# Altium schematic symbol library dsau-motherboard.SchLib: 16 symbols
Pins are listed as number, name and electrical type; pins without a type are passive.

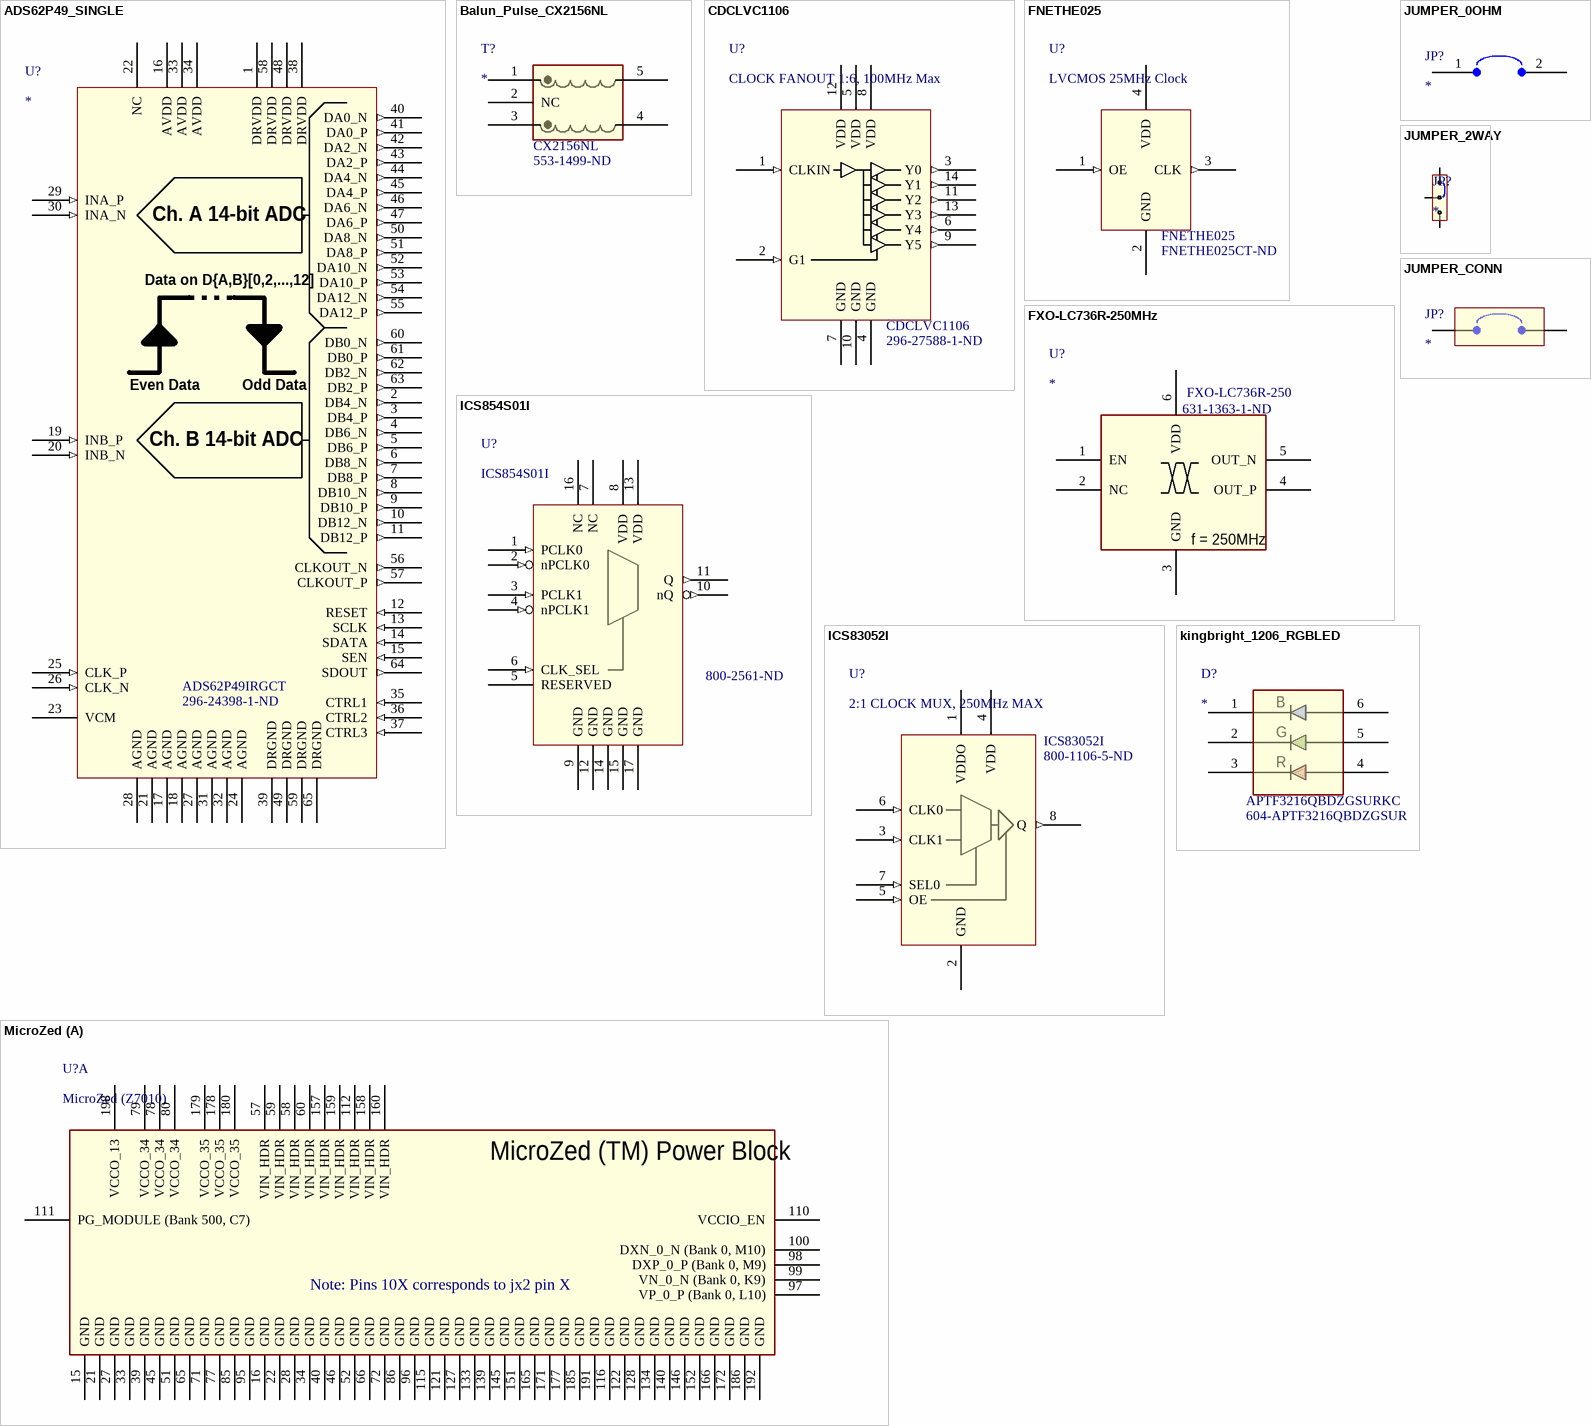
[diagram p0: symbols ADS62P49_SINGLE to MicroZed]

## ADS62P49_SINGLE
designator U?  Manufacturer Part Number: ADS62P49IRGCT  Supplier Part Number 1: 296-24398-1-ND
IC ADC DUAL 14BIT 250MSPS 64VQFN; Manufacturer: Texas Instruments; Supplier 1: Digi-key
footprint VQFN-64 (QFN, 64-Leads, Body 9.1x9.1mm (max), Pitch 0.50mm, IPC Medium Density)
pins: 1 DRVDD (power), 2 DB4_N (out), 3 DB4_P (out), 4 DB6_N (out), 5 DB6_P (out), 6 DB8_N (out), 7 DB8_P (out), 8 DB10_N (out), 9 DB10_P (out), 10 DB12_N (out), 11 DB12_P (out), 12 RESET (in), 13 SCLK (in), 14 SDATA (in), 15 SEN (in), 16 AVDD (power), 17 AGND (power), 18 AGND (power), 19 INB_P (in), 20 INB_N (in), 21 AGND (power), 22 NC, 23 VCM, 24 AGND (power), 25 CLK_P (in), 26 CLK_N (in), 27 AGND (power), 28 AGND (power), 29 INA_P (in), 30 INA_N (in), 31 AGND (power), 32 AGND (power), 33 AVDD (power), 34 AVDD (power), 35 CTRL1 (in), 36 CTRL2 (in), 37 CTRL3 (in), 38 DRVDD (power), 39 DRGND (power), 40 DA0_N (out), 41 DA0_P (out), 42 DA2_N (out), 43 DA2_P (out), 44 DA4_N (out), 45 DA4_P (out), 46 DA6_N (out), 47 DA6_P (out), 48 DRVDD (power), 49 DRGND (power), 50 DA8_N (out), 51 DA8_P (out), 52 DA10_N (out), 53 DA10_P (out), 54 DA12_N (out), 55 DA12_P (out), 56 CLKOUT_N (out), 57 CLKOUT_P (out), 58 DRVDD (power), 59 DRGND (power), 60 DB0_N (out), 61 DB0_P (out), 62 DB2_N (out), 63 DB2_P (out), 64 SDOUT (out), 65 DRGND (power)
text: Ch. A 14-bit ADC; Data on D{A,B}[0,2,...,12]; Even Data; Odd Data; Ch. B 14-bit ADC

## Balun_Pulse_CX2156NL
designator T?  Supplier Part Number 1: 553-1499-ND  Manufacturer Part Number: CX2156NL
TRANSFORMR BALUN 2.3-2700MHZ SMD; Manufacturer: Pulse Electronics Corporation; Supplier 1: Digi-Key
footprint CX2156NL_SMD5 (SOT23, 5-Leads, Body 4.5x5.4mm (max), Pitch 1.50mm, IPC Low Density)
pins: 1, 2 NC, 3, 4, 5

## CDCLVC1106
designator U?, comment CLOCK FANOUT 1:6, 100MHz Max  Manufacturer Part Number: CDCLVC1106  Supplier Part Number 1: 296-27588-1-ND
Clock Fanout 1:6, 100MHz low-skew; Manufacturer: Texas Instruments; Supplier 1: Digi-Key
footprint TSOP65P640-14AM (Footprint not found)
pins: 1 CLKIN (in), 2 G1 (in), 3 Y0 (out), 4 GND (power), 5 VDD (power), 6 Y4 (out), 7 GND (power), 8 VDD (power), 9 Y5 (out), 10 GND (power), 11 Y2 (out), 12 VDD (power), 13 Y3 (out), 14 Y1 (out)

## FNETHE025
designator U?, comment LVCMOS 25MHz Clock  Manufacturer Part Number: FNETHE025  Supplier Part Number 1: FNETHE025CT-ND
Manufacturer: Pericom; Supplier 1: Digi-Key
pins: 1 OE (in), 2 GND (power), 3 CLK (out), 4 VDD (power)

## FXO-LC736R-250MHz
designator U?  Supplier Part Number 1: 631-1363-1-ND  Manufacturer Part Number: FXO-LC736R-250
OSC 250 MHZ 3.3V LVDS SMD; Manufacturer: Fox Electronics; Supplier 1: Digi-Key
footprint FXO-LC736R-SMD_6 (QFN, 6-Leads, Body 7.5x5.2mm (max), Pitch 3.00mm, Pitch1 2.54mm, IPC Low Density)
pins: 1 EN, 2 NC, 3 GND, 4 OUT_P, 5 OUT_N, 6 VDD
text: f = 250MHz

## ICS854S01I
designator U?  Supplier Part Number 1: 800-2561-ND
Supplier 1: Digi-Key
footprint VFQFN16_CUSTOM (QFN, 16-Leads, Body 3.1x3.1mm (max), Pitch 0.50mm, IPC Low Density)
pins: 1 PCLK0 (in), 2 nPCLK0 (in), 3 PCLK1 (in), 4 nPCLK1 (in), 5 RESERVED, 6 CLK_SEL (in), 7 NC, 8 VDD (power), 9 GND (power), 10 nQ (out), 11 Q (out), 12 GND (power), 13 VDD (power), 14 GND (power), 15 GND (power), 16 NC, 17 GND (power)

## ICS83052I
designator U?, comment 2:1 CLOCK MUX, 250MHz MAX  Manufacturer Part Number: ICS83052I  Supplier Part Number 1: 800-1106-5-ND
Manufacturer: IDT; Supplier 1: Digi-Key
footprint SOP65P780-8M (Footprint not found)
pins: 1 VDDO (power), 2 GND (power), 3 CLK1 (in), 4 VDD (power), 5 OE (in), 6 CLK0 (in), 7 SEL0 (in), 8 Q (out)

## JUMPER_0OHM
designator JP?
Value: 0; Supplier Part Number 1: 311-0.0GRCT-ND; Supplier 1: Digikey
footprint RESC1608L (Footprint not found)
pins: 1, 2

## JUMPER_2WAY
designator JP?
footprint HDR1X3 (Footprint not found)
pins: 1, 2, 3

## JUMPER_CONN
designator JP?
footprint RESC1608L (Footprint not found)
footprint HDR1X2 (Footprint not found)
pins: 1, 2

## kingbright_1206_RGBLED
designator D?  Supplier Part Number 1: 604-APTF3216QBDZGSUR  Manufacturer Part Number: APTF3216QBDZGSURKC
The Blue source color devices are made with InGaN Light     Emitting Diode.     The Green source color devices are made with InGaN     on Sapphire Light Emitting Diode.     The Hyper Red source color devices are made with Al-  GaInP on GaAs substrate Ligh; Manufacturer: Kingbright; Supplier 1: Mouser
footprint RGBLED_1206_KINGSBRIGHT
pins: 1 B_N, 2 G_N, 3 R_N, 4 R_P, 5 G_P, 6 B_P
text: B; G; R

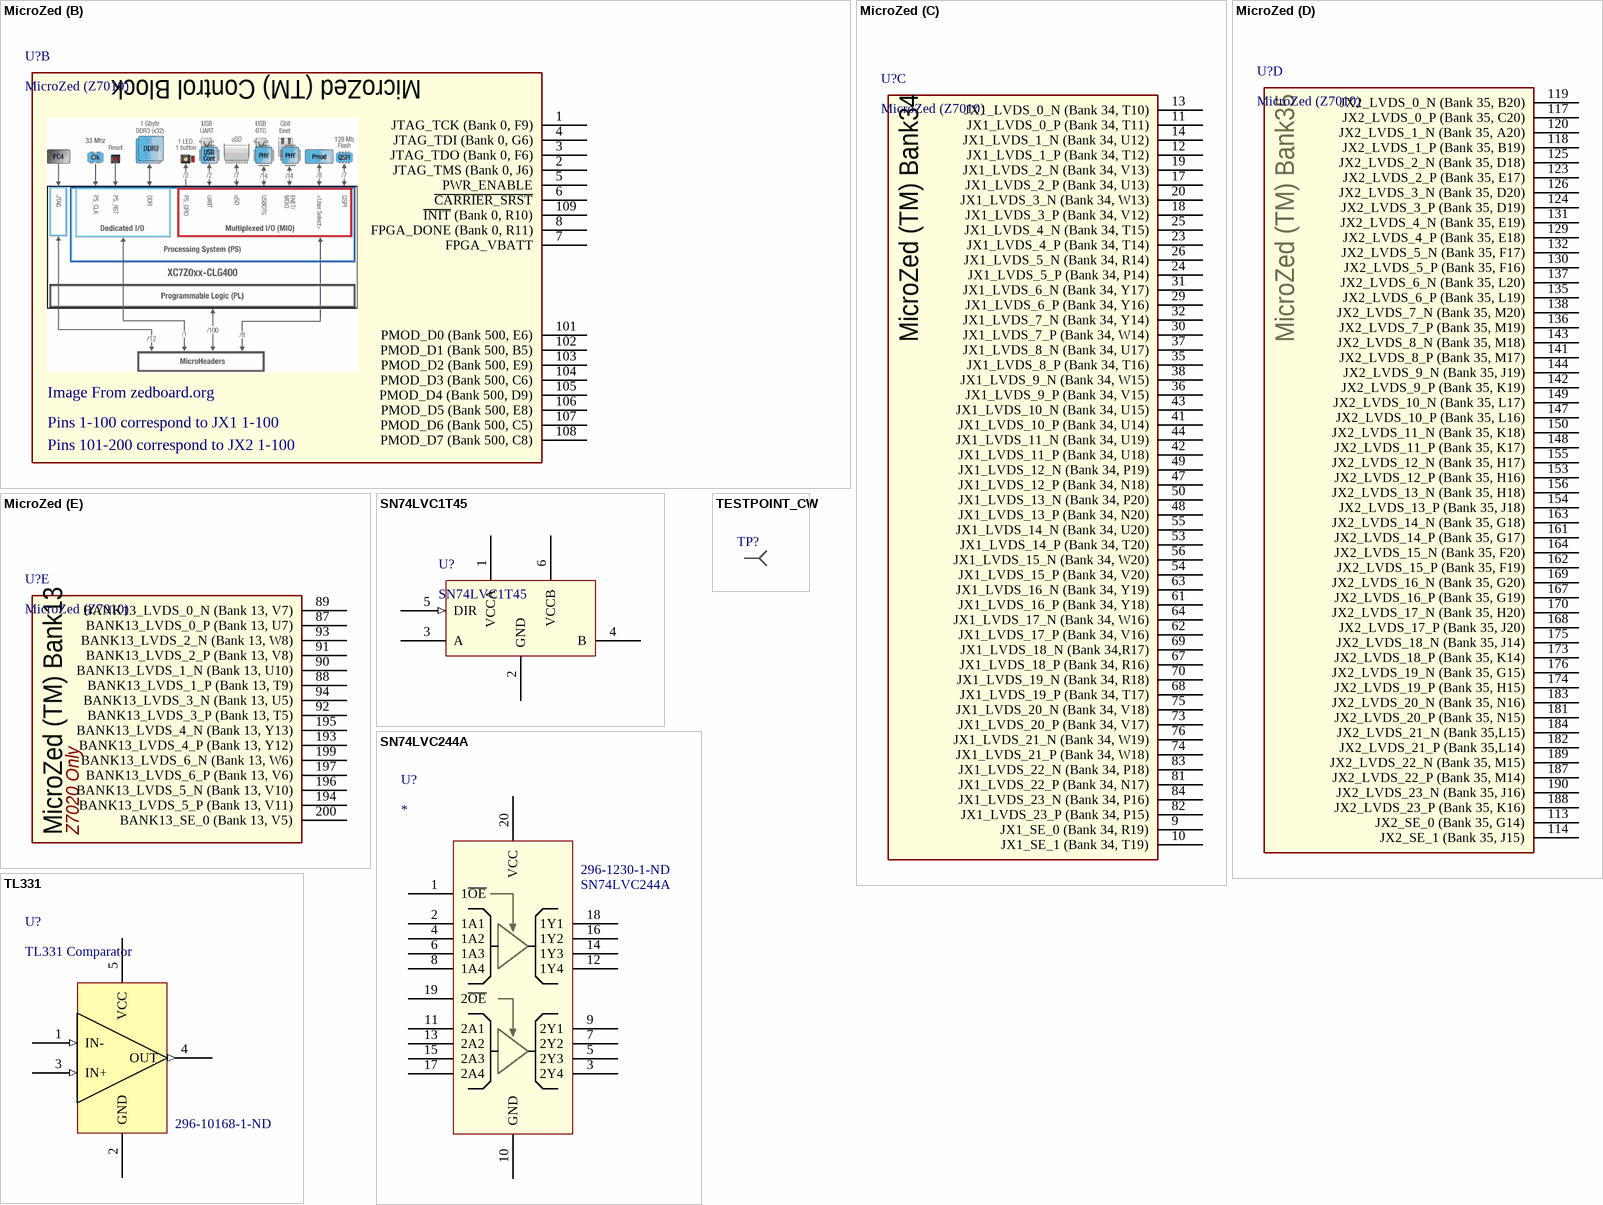
[diagram p1: symbols MicroZed to TL331]

## MicroZed
designator U?, comment MicroZed (Z7010)
MicroZed is a low-cost development board based on the Xilinx Zynq-7000 All Programmable SoC. Its unique design allows it to be used as both a stand-alone evaluation board for basic SoC experimentation, or combined with a carrier card as an embeddable syst; Manufacturer: Avnet; Manfacturer Part Number: AES-Z7MB-7Z010-G; Supplier 2: Mouser; Supplier 1: Avnet; Supplier Part Number 1: AES-Z7MB-7Z010-G; Supplier Part Number 2: 649-61083-101400LF
footprint MicroZed_MatingSide
part A pins: 15 GND (power), 16 GND (power), 21 GND (power), 22 GND (power), 27 GND (power), 28 GND (power), 33 GND (power), 34 GND (power), 39 GND (power), 40 GND (power), 45 GND (power), 46 GND (power), 51 GND (power), 52 GND (power), 57 VIN_HDR (power), 58 VIN_HDR (power), 59 VIN_HDR (power), 60 VIN_HDR (power), 65 GND (power), 66 GND (power), 71 GND (power), 72 GND (power), 77 GND (power), 78 VCCO_34 (power), 79 VCCO_34 (power), 80 VCCO_34 (power), 85 GND (power), 86 GND (power), 95 GND (power), 96 GND (power), 97 VP_0_P (Bank 0, L10), 98 DXP_0_P (Bank 0, M9), 99 VN_0_N (Bank 0, K9), 100 DXN_0_N (Bank 0, M10), 110 VCCIO_EN, 111 PG_MODULE (Bank 500, C7), 112 VIN_HDR (power), 115 GND (power), 116 GND (power), 121 GND (power), 122 GND (power), 127 GND (power), 128 GND (power), 133 GND (power), 134 GND (power), 139 GND (power), 140 GND (power), 145 GND (power), 146 GND (power), 151 GND (power), 152 GND (power), 157 VIN_HDR (power), 158 VIN_HDR (power), 159 VIN_HDR (power), 160 VIN_HDR (power), 165 GND (power), 166 GND (power), 171 GND (power), 172 GND (power), 177 GND (power), 178 VCCO_35 (power), 179 VCCO_35 (power), 180 VCCO_35 (power), 185 GND (power), 186 GND (power), 191 GND (power), 192 GND (power), 198 VCCO_13 (power)
part B pins: 1 JTAG_TCK (Bank 0, F9), 2 JTAG_TMS (Bank 0, J6), 3 JTAG_TDO (Bank 0, F6), 4 JTAG_TDI (Bank 0, G6), 5 PWR_ENABLE, 6 ~{CARRIER_SRST}, 7 FPGA_VBATT, 8 FPGA_DONE (Bank 0, R11), 101 PMOD_D0 (Bank 500, E6), 102 PMOD_D1 (Bank 500, B5), 103 PMOD_D2 (Bank 500, E9), 104 PMOD_D3 (Bank 500, C6), 105 PMOD_D4 (Bank 500, D9), 106 PMOD_D5 (Bank 500, E8), 107 PMOD_D6 (Bank 500, C5), 108 PMOD_D7 (Bank 500, C8), 109 ~{INIT} (Bank 0, R10)
part C pins: 9 JX1_SE_0 (Bank 34, R19), 10 JX1_SE_1 (Bank 34, T19), 11 JX1_LVDS_0_P (Bank 34, T11), 12 JX1_LVDS_1_P (Bank 34, T12), 13 JX1_LVDS_0_N (Bank 34, T10), 14 JX1_LVDS_1_N (Bank 34, U12), 17 JX1_LVDS_2_P (Bank 34, U13), 18 JX1_LVDS_3_P (Bank 34, V12), 19 JX1_LVDS_2_N (Bank 34, V13), 20 JX1_LVDS_3_N (Bank 34, W13), 23 JX1_LVDS_4_P (Bank 34, T14), 24 JX1_LVDS_5_P (Bank 34, P14), 25 JX1_LVDS_4_N (Bank 34, T15), 26 JX1_LVDS_5_N (Bank 34, R14), 29 JX1_LVDS_6_P (Bank 34, Y16), 30 JX1_LVDS_7_P (Bank 34, W14), 31 JX1_LVDS_6_N (Bank 34, Y17), 32 JX1_LVDS_7_N (Bank 34, Y14), 35 JX1_LVDS_8_P (Bank 34, T16), 36 JX1_LVDS_9_P (Bank 34, V15), 37 JX1_LVDS_8_N (Bank 34, U17), 38 JX1_LVDS_9_N (Bank 34, W15), 41 JX1_LVDS_10_P (Bank 34, U14), 42 JX1_LVDS_11_P (Bank 34, U18), 43 JX1_LVDS_10_N (Bank 34, U15), 44 JX1_LVDS_11_N (Bank 34, U19), 47 JX1_LVDS_12_P (Bank 34, N18), 48 JX1_LVDS_13_P (Bank 34, N20), 49 JX1_LVDS_12_N (Bank 34, P19), 50 JX1_LVDS_13_N (Bank 34, P20), 53 JX1_LVDS_14_P (Bank 34, T20), 54 JX1_LVDS_15_P (Bank 34, V20), 55 JX1_LVDS_14_N (Bank 34, U20), 56 JX1_LVDS_15_N (Bank 34, W20), 61 JX1_LVDS_16_P (Bank 34, Y18), 62 JX1_LVDS_17_P (Bank 34, V16), 63 JX1_LVDS_16_N (Bank 34, Y19), 64 JX1_LVDS_17_N (Bank 34, W16), 67 JX1_LVDS_18_P (Bank 34, R16), 68 JX1_LVDS_19_P (Bank 34, T17), 69 JX1_LVDS_18_N (Bank 34,R17), 70 JX1_LVDS_19_N (Bank 34, R18), 73 JX1_LVDS_20_P (Bank 34, V17), 74 JX1_LVDS_21_P (Bank 34, W18), 75 JX1_LVDS_20_N (Bank 34, V18), 76 JX1_LVDS_21_N (Bank 34, W19), 81 JX1_LVDS_22_P (Bank 34, N17), 82 JX1_LVDS_23_P (Bank 34, P15), 83 JX1_LVDS_22_N (Bank 34, P18), 84 JX1_LVDS_23_N (Bank 34, P16)
part D pins: 113 JX2_SE_0 (Bank 35, G14), 114 JX2_SE_1 (Bank 35, J15), 117 JX2_LVDS_0_P (Bank 35, C20), 118 JX2_LVDS_1_P (Bank 35, B19), 119 JX2_LVDS_0_N (Bank 35, B20), 120 JX2_LVDS_1_N (Bank 35, A20), 123 JX2_LVDS_2_P (Bank 35, E17), 124 JX2_LVDS_3_P (Bank 35, D19), 125 JX2_LVDS_2_N (Bank 35, D18), 126 JX2_LVDS_3_N (Bank 35, D20), 129 JX2_LVDS_4_P (Bank 35, E18), 130 JX2_LVDS_5_P (Bank 35, F16), 131 JX2_LVDS_4_N (Bank 35, E19), 132 JX2_LVDS_5_N (Bank 35, F17), 135 JX2_LVDS_6_P (Bank 35, L19), 136 JX2_LVDS_7_P (Bank 35, M19), 137 JX2_LVDS_6_N (Bank 35, L20), 138 JX2_LVDS_7_N (Bank 35, M20), 141 JX2_LVDS_8_P (Bank 35, M17), 142 JX2_LVDS_9_P (Bank 35, K19), 143 JX2_LVDS_8_N (Bank 35, M18), 144 JX2_LVDS_9_N (Bank 35, J19), 147 JX2_LVDS_10_P (Bank 35, L16), 148 JX2_LVDS_11_P (Bank 35, K17), 149 JX2_LVDS_10_N (Bank 35, L17), 150 JX2_LVDS_11_N (Bank 35, K18), 153 JX2_LVDS_12_P (Bank 35, H16), 154 JX2_LVDS_13_P (Bank 35, J18), 155 JX2_LVDS_12_N (Bank 35, H17), 156 JX2_LVDS_13_N (Bank 35, H18), 161 JX2_LVDS_14_P (Bank 35, G17), 162 JX2_LVDS_15_P (Bank 35, F19), 163 JX2_LVDS_14_N (Bank 35, G18), 164 JX2_LVDS_15_N (Bank 35, F20), 167 JX2_LVDS_16_P (Bank 35, G19), 168 JX2_LVDS_17_P (Bank 35, J20), 169 JX2_LVDS_16_N (Bank 35, G20), 170 JX2_LVDS_17_N (Bank 35, H20), 173 JX2_LVDS_18_P (Bank 35, K14), 174 JX2_LVDS_19_P (Bank 35, H15), 175 JX2_LVDS_18_N (Bank 35, J14), 176 JX2_LVDS_19_N (Bank 35, G15), 181 JX2_LVDS_20_P (Bank 35, N15), 182 JX2_LVDS_21_P (Bank 35,L14), 183 JX2_LVDS_20_N (Bank 35, N16), 184 JX2_LVDS_21_N (Bank 35,L15), 187 JX2_LVDS_22_P (Bank 35, M14), 188 JX2_LVDS_23_P (Bank 35, K16), 189 JX2_LVDS_22_N (Bank 35, M15), 190 JX2_LVDS_23_N (Bank 35, J16)
part E pins: 87 BANK13_LVDS_0_P (Bank 13, U7), 88 BANK13_LVDS_1_P (Bank 13, T9), 89 BANK13_LVDS_0_N (Bank 13, V7), 90 BANK13_LVDS_1_N (Bank 13, U10), 91 BANK13_LVDS_2_P (Bank 13, V8), 92 BANK13_LVDS_3_P (Bank 13, T5), 93 BANK13_LVDS_2_N (Bank 13, W8), 94 BANK13_LVDS_3_N (Bank 13, U5), 193 BANK13_LVDS_4_P (Bank 13, Y12), 194 BANK13_LVDS_5_P (Bank 13, V11), 195 BANK13_LVDS_4_N (Bank 13, Y13), 196 BANK13_LVDS_5_N (Bank 13, V10), 197 BANK13_LVDS_6_P (Bank 13, V6), 199 BANK13_LVDS_6_N (Bank 13, W6), 200 BANK13_SE_0 (Bank 13, V5)
part A text: MicroZed (TM) Power Block; Note: Pins 10X corresponds to jx2 pin X
part B text: MicroZed (TM) Control Block; Image From zedboard.org; Pins 1-100 correspond to JX1 1-100; Pins 101-200 correspond to JX2 1-100
part C text: MicroZed (TM) Bank34
part D text: MicroZed (TM) Bank35
part E text: MicroZed (TM) Bank13; Z7020 Only

## SN74LVC1T45
designator U?
This single-bit noninverting bus transceiver uses two separate configurable power-supply rails. The A port is  designed to track VCCA. VCCA accepts any supply voltage from 1.65 V to 5.5 V. The B port is designed to track  VCCB. VCCB accepts any supply vol; Manufacturer: Texas Instruments; Value: SN74LVC1T45; Manufacturer Part Number: SN74LVC1T45; Supplier 1: Digikey; Supplier Part Number 1: 296-16843-1-ND
footprint SOT23_6_CUSTOM
pins: 1 VCCA (power), 2 GND (power), 3 A, 4 B, 5 DIR (in), 6 VCCB (power)

## SN74LVC244A
designator U?  Supplier Part Number: 296-1230-1-ND  Manufacturer Part Number: SN74LVC244A
This octal buffer/line driver is operational at 1.5-V to  3.6-V V CC , but is designed specifically for 1.65-V to  3.6-V V CC operation; Manufacturer: Texas Instruments; Supplier 1: Digi-key
footprint TSOP64P640X120-20N (TSOP, 20-Leads, Body 6.6x4.5mm (max), Pitch 0.64mm, IPC Medium Density)
pins: 1 1~{OE}, 2 1A1, 3 2Y4, 4 1A2, 5 2Y3, 6 1A3, 7 2Y2, 8 1A4, 9 2Y1, 10 GND, 11 2A1, 12 1Y4, 13 2A2, 14 1Y3, 15 2A3, 16 1Y2, 17 2A4, 18 1Y1, 19 2~{OE}, 20 VCC

## TESTPOINT_CW
designator TP?  (value not drawn)
Manufacturer: Keystone; Manufacturer Part Number: 5000; Supplier 1: Digi-Key; Supplier Part Number 1: 5000K-ND
footprint PIN1 (Footprint not found)
pins: 1

## TL331
designator U?, comment TL331 Comparator  Supplier Part Number 1: 296-10168-1-ND
Manufacturer Part Number: TL331IDBVR; Manufacturer: Texas Instruments; Supplier 1: Digi-Key
footprint SOT23_5L_CUSTOM (SOT23, 5-Leads, Body 3.1x3.0mm (max), Pitch 0.95mm, IPC Low Density)
pins: 1 IN- (in), 2 GND (power), 3 IN+ (in), 4 OUT (out), 5 VCC (power)